# Altium footprint library TI.PcbLib: 1 footprints
Each footprint in its own frame and in the unit in brackets; x right, y up, seen from the top. Pads: shape width x height; smd on the part's side, far side on the other; paste and mask are expansions set on the pad; w line width, h text height; cw(c..) or ccw(c..) is an arc to the next point about the centre after c.
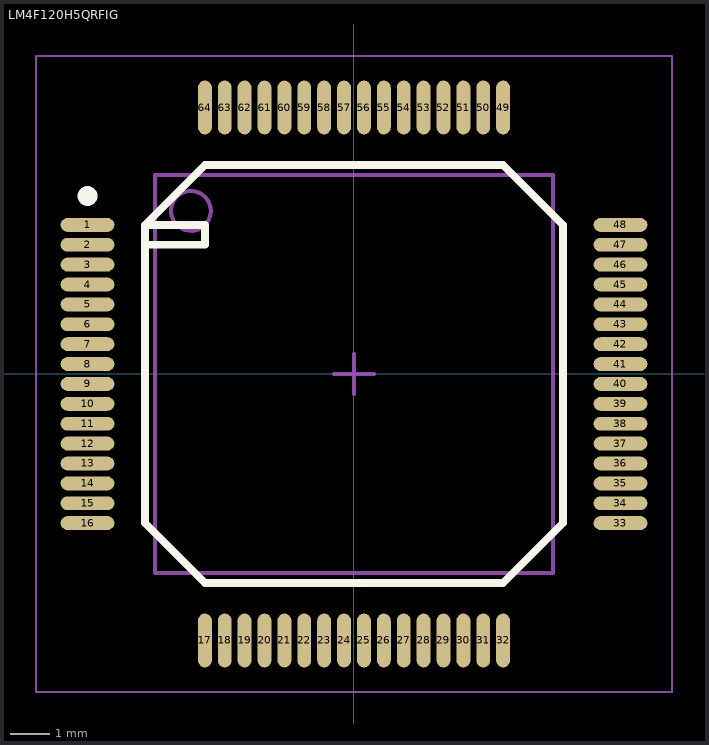
[diagram p0: the footprint, top view; thin cyan lines are the x and y axes]

## LM4F120H5QRFIG [mm] "CQFP, 64-Leads, Body 14.70x14.70mm, Pitch 0.50mm, IPC Medium Density"
height 1.6
pads (64):
  oval 1.35x0.35 smd: 1(-6.7,3.75) 2(-6.7,3.25) 3(-6.7,2.75) 4(-6.7,2.25) 5(-6.7,1.75) 6(-6.7,1.25) 7(-6.7,0.75) 8(-6.7,0.25) 9(-6.7,-0.25) 10(-6.7,-0.75) 11(-6.7,-1.25) 12(-6.7,-1.75) 13(-6.7,-2.25) 14(-6.7,-2.75) 15(-6.7,-3.25) 16(-6.7,-3.75) 33(6.7,-3.75) 34(6.7,-3.25) 35(6.7,-2.75) 36(6.7,-2.25) 37(6.7,-1.75) 38(6.7,-1.25) 39(6.7,-0.75) 40(6.7,-0.25) 41(6.7,0.25) 42(6.7,0.75) 43(6.7,1.25) 44(6.7,1.75) 45(6.7,2.25) 46(6.7,2.75) 47(6.7,3.25) 48(6.7,3.75)
  oval 0.35x1.35 smd: 17(-3.75,-6.7) 18(-3.25,-6.7) 19(-2.75,-6.7) 20(-2.25,-6.7) 21(-1.75,-6.7) 22(-1.25,-6.7) 23(-0.75,-6.7) 24(-0.25,-6.7) 25(0.25,-6.7) 26(0.75,-6.7) 27(1.25,-6.7) 28(1.75,-6.7) 29(2.25,-6.7) 30(2.75,-6.7) 31(3.25,-6.7) 32(3.75,-6.7) 49(3.75,6.7) 50(3.25,6.7) 51(2.75,6.7) 52(2.25,6.7) 53(1.75,6.7) 54(1.25,6.7) 55(0.75,6.7) 56(0.25,6.7) 57(-0.25,6.7) 58(-0.75,6.7) 59(-1.25,6.7) 60(-1.75,6.7) 61(-2.25,6.7) 62(-2.75,6.7) 63(-3.25,6.7) 64(-3.75,6.7)
Top Overlay:
  circle w0.25: c-6.7,4.475 r0.125
  lines w0.2: -5.25,3.25 -3.75,3.25 -3.75,3.75 -5.25,3.75 ; -5.25,3.75 -3.75,5.25 3.75,5.25 5.25,3.75 5.25,-3.75 3.75,-5.25 -3.75,-5.25 -5.25,-3.75 -5.25,3.75
Mechanical 13:
  circle w0.1: c-4.1,4.1 r0.5
  lines w0.1: -5,-5 5,-5 5,5 -5,5 -5,-5
Mechanical 15:
  lines w0.05: -8,-8 8,-8 8,8 -8,8 -8,-8
  lines w0.1: -0.5,0 0.5,0 ; 0,-0.5 0,0.5
3D body: height 1.6, standoff 0.25, extent -5,-5 5,5